# Altium schematic symbol library DIODE,TVS,5.0V,SOD882.Schlib: 1 symbol
Pins are listed as number, name and electrical type; pins without a type are passive.

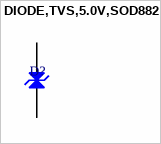
[diagram p0: symbol DIODE,TVS,5.0V,SOD882]

## DIODE,TVS,5.0V,SOD882
designator D?
pins: 1 K, 2 A